# EAGLE library part LTV-247 (library optocoupler)
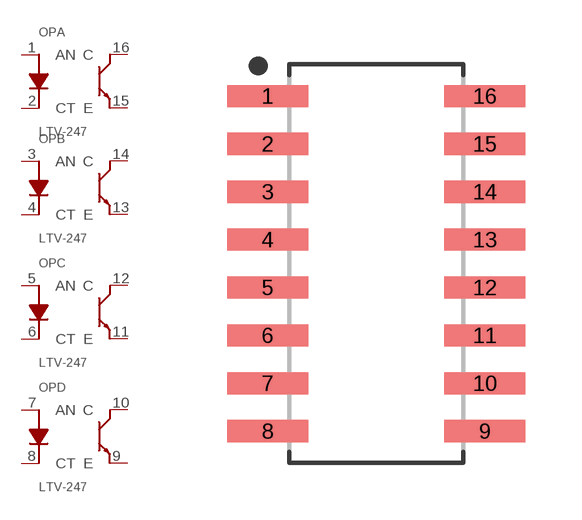
[diagram p0: symbol with the pads of SOIC127P675X220-16N; footprint SOIC127P675X220-16N]

Designator prefix OP; gates A=OPTOCOUPLER B=OPTOCOUPLER C=OPTOCOUPLER D=OPTOCOUPLER

## LTV-247 (LCSC_PART: C115451; MPN: LTV-247)  [SOIC127P675X220-16N]
1  A:AN
2  A:CT
3  B:AN
4  B:CT
5  C:AN
6  C:CT
7  D:AN
8  D:CT
9  D:E
10  D:C
11  C:E
12  C:C
13  B:E
14  B:C
15  A:E
16  A:C

## Footprint SOIC127P675X220-16N (pad centres in mm)
16-SOIC, 1.27 mm pitch, 6.75 mm span, 10.28 X 4.40 X 2.20 mm body 16-pin SOIC package with 1.27 mm pitch, 6.75 mm span with body size 10.28 X 4.40 X 2.20 mm
smd 2.147 x 0.589: 1 -2.88,4.445; 2 -2.88,3.175; 3 -2.88,1.905; 4 -2.88,0.635; 5 -2.88,-0.635; 6 -2.88,-1.905; 7 -2.88,-3.175; 8 -2.88,-4.445; 9 2.88,-4.445; 10 2.88,-3.175; 11 2.88,-1.905; 12 2.88,-0.635; 13 2.88,0.635; 14 2.88,1.905; 15 2.88,3.175; 16 2.88,4.445